# Altium integrated library Project_Parts.IntLib: 25 symbols
Pins are listed as number, name and electrical type; pins without a type are passive.

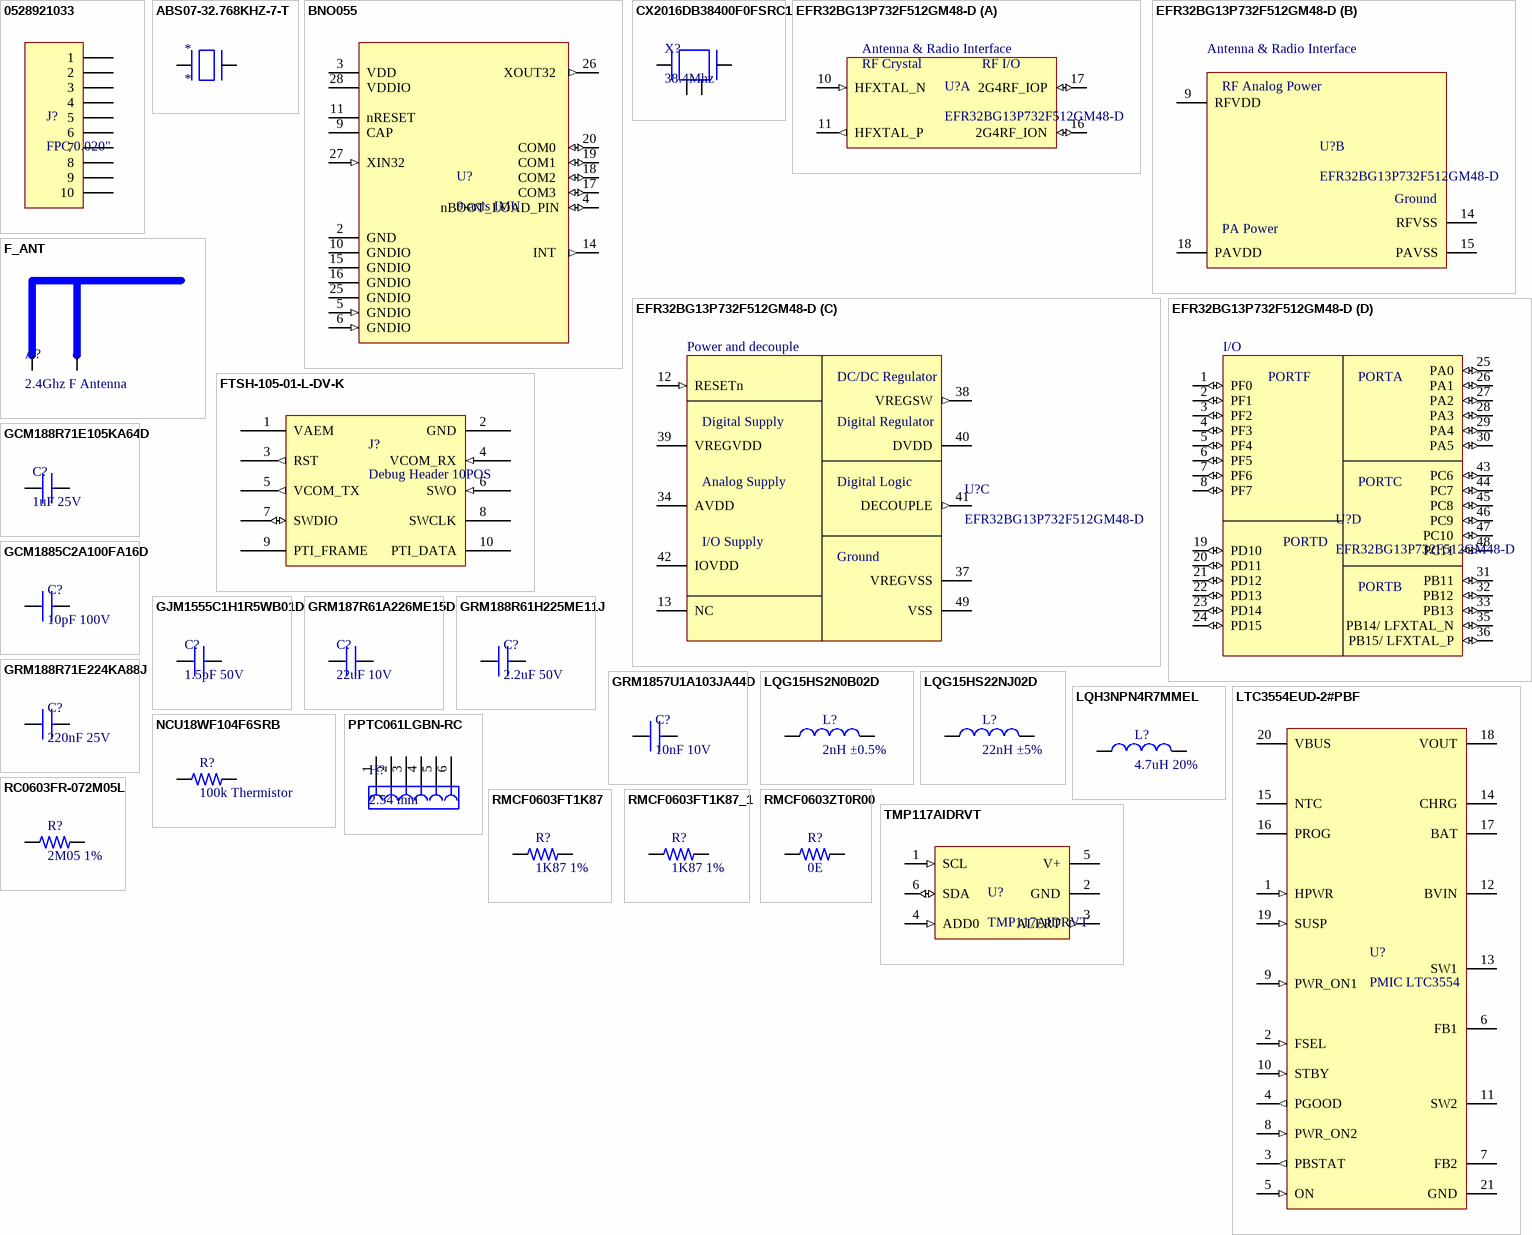
[diagram p0: symbols 0528921033 to TMP117AIDRVT]

## 0528921033
designator J?, comment FPC 0.020"
10 Position FFC, FPC Connector Contacts, Bottom 0.020 (0.50mm) Surface Mount, Right Angle; MF: Molex; MP: 0528921033; Value: *; Package: None; Purchase-URL: https://pricing.snapeda.com/search/part/0528921033/?ref=eda; Price: None; SnapEDA_Link: https://www.snapeda.com/parts/0528921033/Molex/view-part/662408/?ref=snap; Availability: Warning; Check_prices: https://www.snapeda.com/parts/0528921033/Molex/view-part/662408/?ref=eda
footprint MOLEX_0528921033
pins: 1, 2, 3, 4, 5, 6, 7, 8, 9, 10

## ABS07-32.768KHZ-7-T
designator *
Crystal 0.032768MHz ±20ppm (Tol) 7pF Flexural 70000Ohm 2-Pin CSMD T/R; Manufacturer: Abracon; Manufacturer Part Number: ABS07-32.768KHZ-7-T; Frequency: 32.768kHz; ESR (Equivalent Series Resistance): 70kR; Insulation Resistance: 500MR; Operating Frequency: 32.768 kHz; Supplier 1: Digi-Key; RoHS: Yes; Category: Crystals; Stock 1: 215993; Pricing 1: 1=1.36000, 10=1.30000, 50=1.27000, 100=1.08860, 500=1.05840, 1000=0.89208 (USD); Mount: Surface Mount; Case/Package: CSMD; Number of Pins: 2; Min Operating Temperature: -40°C; Max Operating Temperature: 85°C; Series: ABS07; Packaging: Tape and Reel; Frequency Tolerance: 20ppm; Load Capacitance: 7pF; Package Quantity: 3000; Tolerance: 20ppm; Frequency Stability: 20ppm; Termination: SMD/SMT; Series Resistance: 70kR; Length: 3.2mm; Width: 1.5mm; Height: 0.035inch; Depth: 1.5mm; Radiation Hardening: No; REACH SVHC: No SVHC; Lead Free: Lead Free; ComponentLink1URL: https://datasheet.ciiva.com/3174/abs07-3174144.pdf?src-supplier=Avnet; ComponentLink1Description: https://datasheet.ciiva.com/3174/abs07-3174144.pdf?src-supplier=Avnet; ComponentLink2URL: https://datasheet.ciiva.com/855/abs07-855945.pdf?src-supplier=Digi-Key; ComponentLink2Description: https://datasheet.ciiva.com/855/abs07-855945.pdf?src-supplier=Digi-Key; ComponentLink3URL: https://datasheet.ciiva.com/855/abs07-855946.pdf?src-supplier=Digi-Key; ComponentLink3Description: https://datasheet.ciiva.com/855/abs07-855946.pdf?src-supplier=Digi-Key; ComponentLink4URL: https://datasheet.ciiva.com/855/abs07-855947.pdf?src-supplier=Digi-Key; ComponentLink4Description: https://datasheet.ciiva.com/855/abs07-855947.pdf?src-supplier=Digi-Key; ComponentLink5URL: https://datasheet.ciiva.com/8344/abs07-8344589.pdf?src-supplier=Avnet; ComponentLink5Description: https://datasheet.ciiva.com/8344/abs07-8344589.pdf?src-supplier=Avnet; ComponentLink6URL: https://datasheet.ciiva.com/16199/abs07-16199467.pdf?src-supplier=Future+Electronics; ComponentLink6Description: https://datasheet.ciiva.com/16199/abs07-16199467.pdf?src-supplier=Future+Electronics
footprint XTAL_32.768kHz (DFN, 2-Leads, Body 1.50x3.20mm, Pitch 2.40mm, IPC Medium Density)
pins: 1, 2

## BNO055
designator U?, comment 9-axis IMU
BNO055 Series 1.7 to 3.6 V Intelligent 9-Axis Absolute Orientation Sensor-LGA-28; Manufacturer: Bosch; Sensor Type: Accelerometer,Gyroscope,Magnetometer,3 Axis; Output Type: I2C; Supplier 1: Future Electronics; Manufacturer Part Number: BNO055; RoHS: No; Category: Inertial Measurement Units (IMUs); Mount: Surface Mount; Case/Package: LGA; Min Operating Temperature: -40°C; Max Operating Temperature: 85°C; Packaging: Tape and Reel; Lead Free: Lead Free; ComponentLink1URL: https://ae-bst.resource.bosch.com/media/_tech/media/application_notes/BST-BNO055-HS000.pdf ?src-supplier=Digi-Key; ComponentLink1Description: https://ae-bst.resource.bosch.com/media/_tech/media/application_notes/BST-BNO055-HS000.pdf ?src-supplier=Digi-Key
footprint 28-LGA (LGA, 28-Leads, Body 5.20x3.80mmx1.18mm, Pitch 0.50mm)
pins: 2 GND  (power), 3 VDD  (power), 4 nBOOT_LOAD_PIN (io), 5 GNDIO (in), 6 GNDIO (in), 9 CAP  (power), 10 GNDIO (power), 11 nRESET  (power), 14 INT  (out), 15 GNDIO (power), 16 GNDIO (power), 17 COM3  (io), 18 COM2  (io), 19 COM1  (io), 20 COM0  (io), 25 GNDIO  (power), 26 XOUT32  (out), 27 XIN32  (in), 28 VDDIO  (power)

## CX2016DB38400F0FSRC1
designator X?, comment 38.4Mhz
Crystal 38.4MHz 4-Pin SMD T/R; Manufacturer: Kyocera AVX; Manufacturer Part Number: CX2016DB38400F0FSRC1; Supplier 1: Digi-Key; RoHS: No; Category: Crystals and Oscillators; Stock 1: 2086; Pricing 1: 1=1.05000, 10=0.92900, 50=0.86860, 100=0.76760, 500=0.72720, 1000=0.60600 (USD)
footprint XTAL_38.4Mhz (DFN, 4-Leads, Body 1.60x2.00mm, Pitch 1.23mm, IPC Medium Density)
pins: GND 2, GND(NC) 4, HOT1 1, HOT2 3

## EFR32BG13P732F512GM48-D
designator U?
Blue Gecko QFN48 2.4 G 19 dB BLE/Proprietary 512 kB 64 kB(RAM) 31GPIO; Manufacturer: Silicon Labs; Supplier 1: Digi-Key; Manufacturer Part Number: EFR32BG13P732F512GM48-D; RoHS: Yes; Category: RF Receivers, Transceivers; Pricing 1: 1=8.42000, 10=7.72000, 25=7.01800, 80=6.31625, 230=5.78987, 440=5.26350, 945=4.78499 (USD); ComponentLink1URL: http://www.farnell.com/datasheets/2813683.pdf?src-supplier=Farnell; ComponentLink1Description: http://www.farnell.com/datasheets/2813683.pdf?src-supplier=Farnell
footprint QFN-48_EFR32 (QFN, 48-Leads, Body 7.00x7.00mm, Pitch 0.50mm, Thermal Pad 5.30x5.30mm, IPC Medium Density)
part A pins: 10 HFXTAL_N (in) "High Frequency Crystal input pin.", 11 HFXTAL_P (out) "High Frequency Crystal output pin.", 16 2G4RF_ION (io) "2.4 GHz Differential RF input/output, negative path. This pin should be externally grounded.", 17 2G4RF_IOP (io) "2.4 GHz Differential RF input/output, positive path."
part B pins: 9 RFVDD (power) "Radio power supply", 14 RFVSS (power) "Radio Ground", 15 PAVSS (power) "Power Amplifier (PA) voltage regulator VSS", 18 PAVDD (power) ""Power Amplifier (PA) voltage regulator / VDD input""
part C pins: 12 RESETn (in) "Reset input, active low. This pin is internally pulled up to AVDD. To apply an external reset source to this pin, it is required to only drive this pin low during reset, and let the internal pull-up ensure that reset is released.", 13 NC "No Connect.", 34 AVDD (power) "Analog power supply.", 37 VREGVSS (power) "Voltage regulator VSS", 38 VREGSW (out) "DCDC regulator switching node", 39 VREGVDD (power) "Voltage regulator VDD input", 40 DVDD (power) "Digital power supply.", 41 DECOUPLE (out) "Decouple output for on-chip voltage regulator. An external decoupling capacitor is required at this pin. This pin should not be used to power any external circuits.", 42 IOVDD (power) "Digital IO power supply.", 49 VSS (power) "Ground"
part D pins: 1 PF0 (io) "GPIO (5V)", 2 PF1 (io) "GPIO(5V)", 3 PF2 (io) "GPIO (5V)", 4 PF3 (io) "GPIO(5V)", 5 PF4 (io) "GPIO (5V)", 6 PF5 (io) "GPIO(5V)", 7 PF6 (io) "GPIO (5V)", 8 PF7 (io) "GPIO(5V)", 19 PD10 (io) "GPIO (5V)", 20 PD11 (io) "GPIO (5V)", 21 PD12 (io) "GPIO (5V)", 22 PD13 (io) "GPIO", 23 PD14 (io) "GPIO", 24 PD15 (io) "GPIO", 25 PA0 (io) "GPIO", 26 PA1 (io) "GPIO", 27 PA2 (io) "GPIO", 28 PA3 (io) "GPIO", 29 PA4 (io) "GPIO", 30 PA5 (io) "GPIO (5V)", 31 PB11 (io) "GPIO", 32 PB12 (io) "GPIO", 33 PB13 (io) "GPIO", 35 PB14/ LFXTAL_N (io) "GPIO", 36 PB15/ LFXTAL_P (io) "GPIO", 43 PC6 (io) "GPIO (5V)", 44 PC7 (io) "GPIO (5V)", 45 PC8 (io) "GPIO (5V)", 46 PC9 (io) "GPIO (5V)", 47 PC10 (io) "GPIO (5V)", 48 PC11 (io) "GPIO (5V)"
part A text: Antenna & Radio Interface; RF Crystal; RF I/O
part B text: Antenna & Radio Interface; RF Analog Power; Ground; PA Power
part C text: Power and decouple; DC/DC Regulator; Digital Supply; Digital Regulator; Analog Supply; Digital Logic; I/O Supply; Ground
part D text: I/O; PORTF; PORTA; PORTC; PORTD; PORTB

## F_ANT
designator A?, comment 2.4Ghz F Antenna
footprint F_ANT_FOOTPRINT
pins: FEED "Feed into 2.4Ghz F-Antenna", GND "Ground"

## FTSH-105-01-L-DV-K
designator J?, comment Debug Header 10POS
Conn Unshrouded Header HDR 10 POS 1.27mm Solder ST Top Entry SMD Tube; Manufacturer: Samtec; Manufacturer Part Number: FTSH-105-01-L-DV-K; Number of Contacts: 10; Gender: Male; Max Current Rating: 1.75A; Connector Type: Male Pin; Row Spacing: 0.05inch; Supplier 1: Digi-Key; RoHS: Yes; Category: Headers and Wire Housings; Stock 1: 7477; Pricing 1: 1=4.28000, 10=3.88500, 92=3.42304, 460=2.90954, 1012=2.48168 (USD); Mount: Surface Mount; Contact Plating: Gold; Contact Material: Bronze; Housing Color: Black; Housing Material: Polymer; Color: Black; Min Operating Temperature: -55°C; Max Operating Temperature: 125°C; Number of Rows: 2; Termination: Solder; Packaging: Rail/Tube; Orientation: Straight; Package Quantity: 1; Number of Positions: 10; Series: FTSH; Contact Type: Male Pin; Length: 6.35mm; Pitch: 1.27mm; Depth: 3.43mm; Contact Mating Length: 0.12inch; Radiation Hardening: No; Lead Free: Lead Free; RoHS Compliant: Yes; REACH SVHC: No SVHC; ComponentLink1URL: https://datasheet.ciiva.com/26936/getdatasheetpartid-175877-26936879.pdf?src-supplier=Verical; ComponentLink1Description: https://datasheet.ciiva.com/26936/getdatasheetpartid-175877-26936879.pdf?src-supplier=Verical; ComponentLink2URL: https://datasheet.ciiva.com/22703/ftsh-smt-22703900.pdf?src-supplier=Element14; ComponentLink2Description: https://datasheet.ciiva.com/22703/ftsh-smt-22703900.pdf?src-supplier=Element14; ComponentLink3URL: https://datasheet.ciiva.com/10245/ftsh-mt-10245272.pdf?src-supplier=Avnet; ComponentLink3Description: https://datasheet.ciiva.com/10245/ftsh-mt-10245272.pdf?src-supplier=Avnet; ComponentLink4URL: https://datasheet.ciiva.com/16657/ftsh-mt-16657372.pdf?src-supplier=Avnet+Europe; ComponentLink4Description: https://datasheet.ciiva.com/16657/ftsh-mt-16657372.pdf?src-supplier=Avnet+Europe; ComponentLink5URL: https://datasheet.ciiva.com/728/ftsh-1xx-xx-xxx-dv-xxx-mkt-728872.pdf?src-supplier=Digi-Key; ComponentLink5Description: https://datasheet.ciiva.com/728/ftsh-1xx-xx-xxx-dv-xxx-mkt-728872.pdf?src-supplier=Digi-Key
footprint FTSH-105-01-XXX-DV-K
pins: 1 VAEM (power) "Target Advanced Energy Monitor Voltage Net", 2 GND (power) "Target Ground", 3 RST (out) "Target Reset (Active Low)", 4 VCOM_RX (in) "Target Pass-through UART/Virtual COM Port Receive", 5 VCOM_TX (out) "Target Pass-through UART/Virtual COM Port Transmit", 6 SWO (in) "Target Serial Wire Output", 7 SWDIO (io) "Target Serial Wire Data Input/Output", 8 SWCLK "Target Serial Wire Clock", 9 PTI_FRAME "Target Packet Trace Interface Frame Signal", 10 PTI_DATA "Target Packet Trace Interface Data Signal"

## GCM188R71E105KA64D
designator C?, comment 1uF 25V
CAP CER 1UF 25V X7R 0603; Manufacturer: Murata; Manufacturer Part Number: GCM188R71E105KA64D; Tolerance: 10%; Supplier 1: Digi-Key; RoHS: Yes; Category: Ceramic Capacitors; Stock 1: 466; Pricing 1: 1=0.26000, 10=0.17800, 50=0.10700, 100=0.09030, 500=0.06178, 1000=0.05465 (USD); Mount: Surface Mount; Case/Package: 0603; Case Code (Metric): 1608; Case Code (Imperial): 0603; Weight: 0.000222oz; Min Operating Temperature: -55°C; Max Operating Temperature: 125°C; Capacitance: 1uF; Packaging: Tape and Reel; Dielectric: X7R; Voltage Rating: 25V; Voltage: 25V; Termination: SMD/SMT; Voltage Rating (DC): 25V; Package Quantity: 4000; Series: GCM; Construction: Flat; Length: 1.6mm; Width: 0.031inch; Height: 0.8mm; Thickness: 0.035inch; Depth: 0.8mm; Ratings: AEC-Q200; Radiation Hardening: No; REACH SVHC: No SVHC; Lead Free: Lead Free; RoHS Compliant: Yes; ComponentLink1URL: https://datasheet.ciiva.com/11786/0900766b80ef92d0-11786738.pdf?src-supplier=RSComponents; ComponentLink1Description: https://datasheet.ciiva.com/11786/0900766b80ef92d0-11786738.pdf?src-supplier=RSComponents; ComponentLink2URL: https://datasheet.ciiva.com/11616/product-11616499.pdf?src-supplier=Avnet; ComponentLink2Description: https://datasheet.ciiva.com/11616/product-11616499.pdf?src-supplier=Avnet; ComponentLink3URL: https://datasheet.ciiva.com/26843/getdatasheetpartid-562446-26843671.pdf?src-supplier=Verical; ComponentLink3Description: https://datasheet.ciiva.com/26843/getdatasheetpartid-562446-26843671.pdf?src-supplier=Verical; ComponentLink4URL: https://datasheet.ciiva.com/16624/product-16624556.pdf?src-supplier=Avnet+Europe; ComponentLink4Description: https://datasheet.ciiva.com/16624/product-16624556.pdf?src-supplier=Avnet+Europe
footprint CAP_0603_1MM (Chip Capacitor, 2-Leads, Body 1.60x0.80mm, IPC Medium Density)
pins: 1, 2

## GCM1885C2A100FA16D
designator C?, comment 10pF 100V
Cap Ceramic 10pF 100V C0G 1% Pad SMD 0603 125C Automotive T/R; Manufacturer: Murata; Manufacturer Part Number: GCM1885C2A100FA16D; Supplier 1: Digi-Key; RoHS: Yes; Category: Ceramic Capacitors; Stock 1: 30452; Pricing 1: 1=0.20000, 10=0.14300, 50=0.08140, 100=0.06750, 500=0.04730, 1000=0.03916 (USD); RoHS Compliant: Yes
footprint CAP_0603_1MM (Chip Capacitor, 2-Leads, Body 1.60x0.80mm, IPC Medium Density)
pins: 1, 2

## GJM1555C1H1R5WB01D
designator C?, comment 1.5pF 50V
Cap Ceramic 1.5pF 50V C0G 0.05pF SMD 0402 125C T/R; Manufacturer: Murata; Manufacturer Part Number: GJM1555C1H1R5WB01D; Supplier 1: Digi-Key; RoHS: Yes; Category: Ceramic Capacitors; Stock 1: 78387; Pricing 1: 1=0.26000, 10=0.17800, 50=0.11880, 100=0.10100, 500=0.07128, 1000=0.06237, 2500=0.05940, 5000=0.05494 (USD); Mount: Surface Mount; Case/Package: 0402; Case Code (Imperial): 0402; Case Code (Metric): 1005; Min Operating Temperature: -55°C; Max Operating Temperature: 125°C; Packaging: Tape and Reel; Capacitance: 1.5pF; Voltage Rating: 50V; Voltage Rating (DC): 50V; Package Quantity: 10000; Dielectric: C0G; Termination: SMD/SMT; Series: GJM; Construction: Flat; Length: 1mm; Width: 0.02inch; Height: 0.5mm; Thickness: 0.022inch; Depth: 0.5mm; Radiation Hardening: No; Lead Free: Lead Free; RoHS Compliant: Yes; ComponentLink1URL: https://datasheet.ciiva.com/18183/getdatasheetpartid-312921-18183825.pdf?src-supplier=Verical; ComponentLink1Description: https://datasheet.ciiva.com/18183/getdatasheetpartid-312921-18183825.pdf?src-supplier=Verical
footprint CAP_0402 (0402 Capacitor)
pins: 1, 2

## GRM187R61A226ME15D
designator C?, comment 22uF 10V
0603 22 uF 10 V ±20% Tolerance X5R Multilayer Ceramic Capacitor; Manufacturer: Murata; Manufacturer Part Number: GRM187R61A226ME15D; Supplier 1: Digi-Key; RoHS: Yes; Category: Ceramic Capacitors; Stock 1: 914414; Pricing 1: 1=0.52000, 10=0.36500, 50=0.27580, 100=0.24030, 500=0.17798, 1000=0.15128 (USD); Mount: Surface Mount; Case/Package: 0603; Case Code (Metric): 1608; Case Code (Imperial): 0603; Min Operating Temperature: -55°C; Max Operating Temperature: 85°C; Packaging: Tape and Reel; Capacitance: 22uF; Voltage Rating: 10V; Tolerance: 20%; Voltage Rating (DC): 10V; Dielectric: X5R; Length: 0.063inch; Width: 0.031inch; Thickness: 0.031inch; RoHS Compliant: Yes; ComponentLink1URL: http://search.murata.co.jp/Ceramy/image/img/A01X/G101/ENG/GRM187R61A226ME15-01.pdf?src-supplier=Digi-Key; ComponentLink1Description: http://search.murata.co.jp/Ceramy/image/img/A01X/G101/ENG/GRM187R61A226ME15-01.pdf?src-supplier=Digi-Key
footprint CAP_0603_1MM (Chip Capacitor, 2-Leads, Body 1.60x0.80mm, IPC Medium Density)
pins: 1, 2

## GRM188R61H225ME11J
designator C?, comment 2.2uF 50V
Cap Ceramic 2.2uF 50VDC X5R 20% 0603 Paper T/R; Manufacturer: Murata; Manufacturer Part Number: GRM188R61H225ME11J; Supplier 1: Digi-Key; RoHS: Yes; Category: Ceramic Capacitors; Stock 1: 160; Pricing 1: 1=0.35000, 10=0.23800, 50=0.15840, 100=0.13460, 500=0.09504, 1000=0.08316, 2500=0.07920, 5000=0.07326 (USD); RoHS Compliant: Yes
footprint CAP_0603_1MM (Chip Capacitor, 2-Leads, Body 1.60x0.80mm, IPC Medium Density)
pins: 1, 2

## GRM188R71E224KA88J
designator C?, comment 220nF 25V
Cap Ceramic 0.22uF 25V X7R 10% SMD 0603 125°C Paper T/R; Manufacturer: Murata; Manufacturer Part Number: GRM188R71E224KA88J; Supplier 1: Digi-Key; RoHS: Yes; Category: Ceramic Capacitors; Stock 1: 6629; Pricing 1: 1=0.20000, 10=0.14100, 50=0.08020, 100=0.06650, 500=0.04664, 1000=0.03861, 2500=0.03593, 5000=0.03287 (USD); Mount: Surface Mount; Case/Package: 0603; Case Code (Imperial): 0603; Case Code (Metric): 1608; Min Operating Temperature: -55°C; Max Operating Temperature: 125°C; Tolerance: 10%; Packaging: Tape and Reel; Capacitance: 220nF; Voltage Rating: 25V; Voltage Rating (DC): 25V; Package Quantity: 10000; Dielectric: X7R; Termination: SMD/SMT; Series: GRM; Construction: Flat; Length: 1.6mm; Width: 0.031inch; Height: 0.8mm; Thickness: 0.035inch; Depth: 0.8mm; Radiation Hardening: No; RoHS Compliant: Yes; ComponentLink1URL: https://datasheet.ciiva.com/167/grm188r71e224ka88-01-167083.pdf?src-supplier=Digi-Key; ComponentLink1Description: https://datasheet.ciiva.com/167/grm188r71e224ka88-01-167083.pdf?src-supplier=Digi-Key; ComponentLink2URL: https://datasheet.ciiva.com/11619/product-11619207.pdf?src-supplier=Avnet; ComponentLink2Description: https://datasheet.ciiva.com/11619/product-11619207.pdf?src-supplier=Avnet; ComponentLink3URL: https://datasheet.ciiva.com/17455/product-17455436.pdf?src-supplier=Avnet+Europe; ComponentLink3Description: https://datasheet.ciiva.com/17455/product-17455436.pdf?src-supplier=Avnet+Europe
footprint CAP_0603_1MM (Chip Capacitor, 2-Leads, Body 1.60x0.80mm, IPC Medium Density)
pins: 1, 2

## GRM1857U1A103JA44D
designator C?, comment 10nF 10V
0603 10000 pF 10 V ±5% Tolerance U2J Multilayer Ceramic Capacitor; Manufacturer: Murata; Manufacturer Part Number: GRM1857U1A103JA44D; Supplier 1: Digi-Key; RoHS: Yes; Category: Ceramic Capacitors; Stock 1: 984; Pricing 1: 1=0.22000, 10=0.14800, 50=0.08860, 100=0.07480, 500=0.05120, 1000=0.04529 (USD); Mount: Surface Mount; Case/Package: 0603; Case Code (Metric): 1608; Case Code (Imperial): 0603; Min Operating Temperature: -55°C; Max Operating Temperature: 125°C; Capacitance: 10nF; Tolerance: 5%; Package Quantity: 1; Packaging: Tape and Reel; Voltage Rating: 10V; Voltage Rating (DC): 10V; Dielectric: U2J; Termination: SMD/SMT; Series: GRM; Construction: Flat; Length: 1.6mm; Width: 0.031inch; Height: 0.5mm; Thickness: 0.02inch; Depth: 0.8mm; Radiation Hardening: No; RoHS Compliant: Yes; ComponentLink1URL: https://datasheet.ciiva.com/168/product-168294.pdf?src-supplier=Digi-Key; ComponentLink1Description: https://datasheet.ciiva.com/168/product-168294.pdf?src-supplier=Digi-Key; ComponentLink2URL: https://datasheet.ciiva.com/29540/partnumbering-e-01-29540431.pdf?src-supplier=Digi-Key; ComponentLink2Description: https://datasheet.ciiva.com/29540/partnumbering-e-01-29540431.pdf?src-supplier=Digi-Key
footprint CAP_0603_1MM (Chip Capacitor, 2-Leads, Body 1.60x0.80mm, IPC Medium Density)
pins: 1, 2

## LQG15HS2N0B02D
designator L?, comment 2nH ±0.5%
Inductor RF Chip Unshielded Multi-Layer 0.002uH 0.1nH 100MHz 8Q-Factor Air 0.9A 0.09Ohm DCR 0402 T/R; Manufacturer: Murata; Manufacturer Part Number: LQG15HS2N0B02D; Supplier 1: Digi-Key; RoHS: Yes; Category: Fixed Inductors; Stock 1: 42726; Pricing 1: 1=0.10000, 10=0.08000, 25=0.07120, 50=0.06060, 100=0.05360, 250=0.04908, 500=0.04462, 1000=0.03748, 2500=0.03213 (USD); RoHS Compliant: Yes
footprint IND_0402
pins: 1, 2

## LQG15HS22NJ02D
designator L?, comment 22nH ±5%
Inductor 22nH 350mA ±5% 0402; Manufacturer: Murata; Manufacturer Part Number: LQG15HS22NJ02D; Core Material: Air; Q Factor: 8; Current Rating: 300mA; Shielding: Unshielded; Self Resonant Frequency: 1.9GHz; DC Resistance (DCR): 420mR; Test Frequency: 100MHz; Supplier 1: Digi-Key; RoHS: Yes; Category: Fixed Inductors; Stock 1: 680; Pricing 1: 1=0.10000, 10=0.05500, 25=0.04920, 50=0.04180, 100=0.03690, 250=0.03380, 500=0.03072, 1000=0.02580, 2500=0.02211 (USD); Mount: Surface Mount; Case/Package: 0402; Case Code (Metric): 1005; Case Code (Imperial): 0402; Min Operating Temperature: -55°C; Max Operating Temperature: 125°C; Package Quantity: 10000; Packaging: Tape and Reel; Tolerance: 5%; Inductance: 22nH; Max DC Current: 300mA; Termination: SMD/SMT; DC Current: 300mA; Series: LQG15HS; Rated Current-Max: 300mA; Length: 1mm; Width: 0.02inch; Height: 0.5mm; Height - Seated (Max): 0.022inch; Depth: 0.55mm; Radiation Hardening: No; Military Standard: Not; Lead Free: Lead Free; RoHS Compliant: Yes; ComponentLink1URL: https://datasheet.ciiva.com/11801/0900766b80f10809-11801427.pdf?src-supplier=RSComponents; ComponentLink1Description: https://datasheet.ciiva.com/11801/0900766b80f10809-11801427.pdf?src-supplier=RSComponents; ComponentLink2URL: https://datasheet.ciiva.com/1038/l0075s0083lqg15hs-1038107.pdf?src-supplier=Digi-Key; ComponentLink2Description: https://datasheet.ciiva.com/1038/l0075s0083lqg15hs-1038107.pdf?src-supplier=Digi-Key; ComponentLink3URL: https://datasheet.ciiva.com/1038/l0075s0083lqg15hs-1038106.pdf?src-supplier=Digi-Key; ComponentLink3Description: https://datasheet.ciiva.com/1038/l0075s0083lqg15hs-1038106.pdf?src-supplier=Digi-Key; ComponentLink4URL: https://datasheet.ciiva.com/1038/l0075s0083lqg15hs-1038108.pdf?src-supplier=Digi-Key; ComponentLink4Description: https://datasheet.ciiva.com/1038/l0075s0083lqg15hs-1038108.pdf?src-supplier=Digi-Key; ComponentLink5URL: https://datasheet.ciiva.com/3082/l0075s0083lqg15hs-3082178.pdf?src-supplier=Avnet; ComponentLink5Description: https://datasheet.ciiva.com/3082/l0075s0083lqg15hs-3082178.pdf?src-supplier=Avnet; ComponentLink6URL: https://datasheet.ciiva.com/16444/l0075s0083lqg15hs-16444393.pdf?src-supplier=Future+Electronics; ComponentLink6Description: https://datasheet.ciiva.com/16444/l0075s0083lqg15hs-16444393.pdf?src-supplier=Future+Electronics; ComponentLink7URL: https://datasheet.ciiva.com/18088/getdatasheetpartid-55811-18088843.pdf?src-supplier=Verical; ComponentLink7Description: https://datasheet.ciiva.com/18088/getdatasheetpartid-55811-18088843.pdf?src-supplier=Verical; ComponentLink8URL: https://datasheet.ciiva.com/17279/l0075s0083lqg15hs-17279242.pdf?src-supplier=Avnet+Europe; ComponentLink8Description: https://datasheet.ciiva.com/17279/l0075s0083lqg15hs-17279242.pdf?src-supplier=Avnet+Europe
footprint IND_0402
pins: 1, 2

## LQH3NPN4R7MMEL
designator L?, comment 4.7uH 20%
Ind Power Chip Shielded Wirewound 4.7uH 20% 1MHz Ferrite 1.7A 1212 Emboss T/R; Manufacturer: Murata; Manufacturer Part Number: LQH3NPN4R7MMEL; Current Rating: 1A; Saturation Current: 1.3A; DC Resistance (DCR): 120mR; Self Resonant Frequency: 40MHz; Supplier 1: Digi-Key; RoHS: Yes; Category: Fixed Inductors; Stock 1: 3653; Pricing 1: 1=0.36000, 10=0.32000, 25=0.28040, 50=0.24020, 100=0.22020, 250=0.20020, 500=0.18818, 1000=0.14414 (USD); Mount: Surface Mount; Case/Package: 1212; Core Material: Ferrite; Case Code (Imperial): 1212; Case Code (Metric): 3030; Min Operating Temperature: -40°C; Max Operating Temperature: 105°C; Resistor Type: Wirewound; Packaging: Cut Tape; Inductance: 4.7uH; Tolerance: 20%; Shielding: Shielded; Test Frequency: 1MHz; RoHS Compliant: Yes; ComponentLink1URL: http://search.murata.co.jp/Ceramy/image/img/P02/JELF243A-0153.pdf?src-supplier=Digi-Key; ComponentLink1Description: http://search.murata.co.jp/Ceramy/image/img/P02/JELF243A-0153.pdf?src-supplier=Digi-Key
footprint INDC3030X15N (Chip Inductor, 2-Leads, Body 3.00x3.00mm, IPC Medium Density)
pins: 1, 2

## LTC3554EUD-2#PBF
designator U?, comment PMIC LTC3554
Switching Battery Charger Li-Ion/Li-Pol 400mA 4.2V 20-Pin QFN EP Tube; Manufacturer: Analog Devices / Linear Technology; Manufacturer Part Number: LTC3554EUD-2#PBF; Number of Outputs: 2; Max Input Voltage: 5.5V; Min Input Voltage: 4.35V; Operating Supply Current: 10uA; Number of Cells: 1; Supplier 1: Digi-Key; RoHS: Yes; Category: Battery Management; Stock 1: 121; Pricing 1: 1=6.36000, 10=5.74300, 25=5.47600, 100=4.75470, 250=4.54104, 500=4.15800 (USD); Case/Package: QFN; Number of Pins: 20; Min Operating Temperature: -40°C; Max Operating Temperature: 85°C; Package Quantity: 121; Packaging: Rail/Tube; Series: PowerPath™; RoHS Compliant: Yes; ComponentLink1URL: https://datasheet.ciiva.com/1964/27687-1964824.pdf?src-supplier=Digi-Key; ComponentLink1Description: https://datasheet.ciiva.com/1964/27687-1964824.pdf?src-supplier=Digi-Key
footprint LTC3554QFN-PMIC (QFN, 20-Leads, Body 3.50x3.50mm, Pitch 0.40mm, Thermal Pad 1.65x1.65mm, IPC Medium Density)
pins: 1 HPWR (in) "High Power Logic Input.", 2 FSEL (in) "Buck Frequency Select", 3 PBSTAT (out) "Pushbutton Status.", 4 PGOOD (out) "Power Good.", 5 ON (in) "Pushbutton Input.", 6 FB1 (power) "Feedback Input for Step-Down Switching Regulator 1.", 7 FB2 (power) "Feedback Input for Step-Down Switching Regulator 2.", 8 PWR_ON2 (in) "Logic Input Enables Step-Down Switching Regulator 2", 9 PWR_ON1 (in) "Logic Input Enables Step-Down Switching Regulator 1", 10 STBY (in) "Standby Mode.", 11 SW2 (power) "Power Transmission (Switch) Pin for Step-Down Switching Regulator 2.", 12 BVIN (power) "Power Input for Step-Down Switching Regulators 1 and 2.", 13 SW1 (power) "Power Transmission (Switch) Pin for Step-Down Switching Regulator 1.", 14 CHRG (power) "Open-Drain Charge Status Output.", 15 NTC (power) "The NTC pin connects to a battery’s thermistor to determine if the battery is too hot or too cold to charge.", 16 PROG (power) "Charge Current Program and Charge Current Monitor Pin.", 17 BAT (power) "Single-Cell Li-Ion Battery Pin.", 18 VOUT (power) "Output Voltage of the PowerPath Controller and Input Voltage of the Battery Charger.", 19 SUSP (in) "Suspend Mode Logic Input.", 20 VBUS (power) "USB Input Voltage.", 21 GND (power) "Gnd exposed pad"

## NCU18WF104F6SRB
designator R?, comment 100k Thermistor
Ntc Thermistor, 100K, 0603, Automotive; Manufacturer: Murata; Manufacturer Part Number: NCU18WF104F6SRB; Supplier 1: Digi-Key; RoHS: Yes; Category: Thermistors; Stock 1: 152; Pricing 1: 1=0.37000, 5=0.33000, 10=0.29300, 25=0.26240, 50=0.23040, 100=0.19650, 500=0.16248, 1000=0.13603 (USD); Case Code (Metric): 1608; Case Code (Imperial): 0603; Min Operating Temperature: -40°C; Max Operating Temperature: 150°C; REACH SVHC: No SVHC; RoHS Compliant: Yes; ComponentLink1URL: http://www.farnell.com/datasheets/2095756.pdf?src-supplier=Farnell; ComponentLink1Description: http://www.farnell.com/datasheets/2095756.pdf?src-supplier=Farnell; ComponentLink2URL: https://www.murata.com/~/media/webrenewal/support/library/catalog/products/thermistor/r03e.ashx?la=en-us&src-supplier=Digi-Key; ComponentLink2Description: https://www.murata.com/~/media/webrenewal/support/library/catalog/products/thermistor/r03e.ashx?la=en-us&src-supplier=Digi-Key; ComponentLink3URL: http://www.farnell.com/datasheets/2095756.pdf?src-supplier=Element14; ComponentLink3Description: http://www.farnell.com/datasheets/2095756.pdf?src-supplier=Element14; ComponentLink4URL: http://www.farnell.com/datasheets/2095756.pdf?src-supplier=Newark; ComponentLink4Description: http://www.farnell.com/datasheets/2095756.pdf?src-supplier=Newark
footprint RES_0603_1608X06 (Chip Resistor, 2-Leads, Body 1.60x0.80mm, IPC Medium Density)
pins: 1, 2

## PPTC061LGBN-RC
designator H?, comment 2.54 mm
Header Female 2.54 mm 1 Row Right Angle; Manufacturer: Sullins; Manufacturer Part Number: PPTC061LGBN-RC; Number of Positions: 6; Pitch: 0.1inch; Supplier 1: Digi-Key; RoHS: Yes; Category: Connectors; Stock 1: 12070; Pricing 1: 1=0.71000, 10=0.61800, 80=0.50925, 440=0.44280, 1000=0.36531, 5000=0.32103, 10000=0.31980 (USD); Mount: Through Hole; Color: Black; Contact Plating: Tin; Contact Material: Bronze; Housing Color: Black; Housing Material: Plastic; Package Quantity: 1000; Number of Rows: 1; Packaging: Bulk; Termination: Solder; Connector Type: Header; Contact Type: Female Socket; Length: 15.7mm; Width: 8.5mm; Height: 2.4mm; Lead Free: Lead Free; RoHS Compliant: Yes; ComponentLink1URL: https://media.digikey.com/pdf/Data%20Sheets/Sullins%20PDFs/Female_Headers.100_DS.pdf?src-supplier=Digi-Key; ComponentLink1Description: https://media.digikey.com/pdf/Data%20Sheets/Sullins%20PDFs/Female_Headers.100_DS.pdf?src-supplier=Digi-Key; Supplier Part Number 1: S5442-ND
footprint 6-PIN_FEMALE_90_HEADER (.025 SQ Post Terminal Strip Assembly, 1x6 Pins, Vertical, 2.54mm Pitch, Female)
pins: 1, 2, 3, 4, 5, 6

## RC0603FR-072M05L
designator R?, comment 2M05 1%
Res Thick Film 0603 2.05M Ohm 1% 1/10W ±100ppm/°C Molded SMD SMD Paper T/R; Manufacturer: Yageo; Manufacturer Part Number: RC0603FR-072M05L; Resistance: 2.05MR; Max Power Dissipation: 100mW; Supplier 1: Digi-Key; RoHS: Yes; Category: Chip SMD Resistors; Stock 1: 2145; Pricing 1: 1=0.10000, 10=0.02400, 100=0.00970, 1000=0.00436, 2500=0.00378 (USD); Case/Package: 0603; Contact Plating: Tin,Matte; Min Operating Temperature: -55°C; Max Operating Temperature: 155°C; Tolerance: 1%; Resistor Type: Thick Film; Packaging: Tape and Reel; Number of Terminations: 2; Temperature Coefficient: 100ppm/°C; Features: Moisture Resistant; Series: RC; Length: 0.063inch; Width: 0.031inch; Height: 0.022inch; Radiation Hardening: No; RoHS Compliant: Yes; ComponentLink1URL: http://www.yageo.com/documents/recent/PYu-RC_Group_51_RoHS_L_2.pdf?src-supplier=Avnet; ComponentLink1Description: http://www.yageo.com/documents/recent/PYu-RC_Group_51_RoHS_L_2.pdf?src-supplier=Avnet; ComponentLink2URL: http://www.yageo.com.tw/exep/pages/download/literatures/PYu-R_INT-thick_7.pdf?src-supplier=Digi-Key; ComponentLink2Description: http://www.yageo.com.tw/exep/pages/download/literatures/PYu-R_INT-thick_7.pdf?src-supplier=Digi-Key; ComponentLink3URL: http://www.yageo.com/documents/recent/PYu-RC0603_51_RoHS_L_5.pdf?src-supplier=Avnet+Europe; ComponentLink3Description: http://www.yageo.com/documents/recent/PYu-RC0603_51_RoHS_L_5.pdf?src-supplier=Avnet+Europe
footprint RES_0603_1608X06 (Chip Resistor, 2-Leads, Body 1.60x0.80mm, IPC Medium Density)
pins: 1, 2

## RMCF0603FT1K87
designator R?, comment 1K87 1%
Res Thick Film 0603 1.87K Ohm 1% 1/10W ±100ppm/°C Molded SMD SMD Paper T/R; Manufacturer: Stackpole Electronics; Manufacturer Part Number: RMCF0603FT1K87; Resistance: 1.87kR; Max Power Dissipation: 100mW; Supplier 1: Digi-Key; RoHS: Yes; Category: Chip SMD Resistors; Stock 1: 17; Pricing 1: 1=0.10000, 10=0.01700, 100=0.00680, 1000=0.00305, 2500=0.00264 (USD); Mount: Surface Mount; Case/Package: 0603; Case Code (Metric): 1608; Case Code (Imperial): 0603; Contact Plating: Tin,Matte; Min Operating Temperature: -55°C; Max Operating Temperature: 155°C; Tolerance: 1%; Packaging: Tape and Reel; Resistor Type: Thick Film; Number of Terminations: 2; Temperature Coefficient: 100ppm/°C; Features: Automotive AEC-Q200; Series: RMCF; Length: 0.061inch; Width: 0.031inch; Height: 0.022inch; Radiation Hardening: No; Lead Free: Lead Free; RoHS Compliant: Yes; ComponentLink1URL: https://www.seielect.com/catalog/SEI-RMCF_RMCP.pdf?src-supplier=Avnet; ComponentLink1Description: https://www.seielect.com/catalog/SEI-RMCF_RMCP.pdf?src-supplier=Avnet; ComponentLink2URL: https://www.seielect.com/catalog/SEI-Packaging.pdf?src-supplier=Digi-Key; ComponentLink2Description: https://www.seielect.com/catalog/SEI-Packaging.pdf?src-supplier=Digi-Key; ComponentLink3URL: https://www.seielect.com/Catalog/SEI-RMCF_RMCP.pdf?src-supplier=Digi-Key; ComponentLink3Description: https://www.seielect.com/Catalog/SEI-RMCF_RMCP.pdf?src-supplier=Digi-Key
footprint RES_0603_1608X06 (Chip Resistor, 2-Leads, Body 1.60x0.80mm, IPC Medium Density)
pins: 1, 2

## RMCF0603FT1K87_1
designator R?, comment 1K87 1%
Res Thick Film 0603 1.87K Ohm 1% 1/10W ±100ppm/°C Molded SMD SMD Paper T/R; Manufacturer: Stackpole Electronics; Manufacturer Part Number: RMCF0603FT1K87; Resistance: 1.87kR; Max Power Dissipation: 100mW; Supplier 1: Digi-Key; RoHS: Yes; Category: Chip SMD Resistors; Stock 1: 17; Pricing 1: 1=0.10000, 10=0.01700, 100=0.00680, 1000=0.00305, 2500=0.00264 (USD); Mount: Surface Mount; Case/Package: 0603; Case Code (Metric): 1608; Case Code (Imperial): 0603; Contact Plating: Tin,Matte; Min Operating Temperature: -55°C; Max Operating Temperature: 155°C; Tolerance: 1%; Packaging: Tape and Reel; Resistor Type: Thick Film; Number of Terminations: 2; Temperature Coefficient: 100ppm/°C; Features: Automotive AEC-Q200; Series: RMCF; Length: 0.061inch; Width: 0.031inch; Height: 0.022inch; Radiation Hardening: No; Lead Free: Lead Free; RoHS Compliant: Yes; ComponentLink1URL: https://www.seielect.com/catalog/SEI-RMCF_RMCP.pdf?src-supplier=Avnet; ComponentLink1Description: https://www.seielect.com/catalog/SEI-RMCF_RMCP.pdf?src-supplier=Avnet; ComponentLink2URL: https://www.seielect.com/catalog/SEI-Packaging.pdf?src-supplier=Digi-Key; ComponentLink2Description: https://www.seielect.com/catalog/SEI-Packaging.pdf?src-supplier=Digi-Key; ComponentLink3URL: https://www.seielect.com/Catalog/SEI-RMCF_RMCP.pdf?src-supplier=Digi-Key; ComponentLink3Description: https://www.seielect.com/Catalog/SEI-RMCF_RMCP.pdf?src-supplier=Digi-Key
footprint RES_0603_1608X06 (Chip Resistor, 2-Leads, Body 1.60x0.80mm, IPC Medium Density)
pins: 1, 2

## RMCF0603ZT0R00
designator R?, comment 0E
Res Thkflm 0603 0 Ohm Jumper 1/10W 100Ppm/ C Smd Rohs Compliant: Yes; Manufacturer: Stackpole Electronics; Manufacturer Part Number: RMCF0603ZT0R00; Resistance: 0R; Power Rating: 100mW; Current Rating: 1A; Working Voltage: 75V; Supplier 1: Digi-Key; RoHS: Yes; Category: Chip SMD Resistors; Stock 1: 5165087; Pricing 1: 1=0.10000, 10=0.01300, 25=0.00960, 50=0.00720, 100=0.00530, 250=0.00404, 500=0.00324, 1000=0.00238 (USD); Mount: Surface Mount; Case/Package: 0603; Case Code (Metric): 1608; Case Code (Imperial): 0603; Contact Plating: Tin,Matte; Min Operating Temperature: -55°C; Max Operating Temperature: 155°C; Packaging: Tape and Reel; Series: RMCF; Resistor Type: Thick Film; Number of Terminations: 2; Max Power Dissipation: 100mW; Features: Automotive AEC-Q200; Construction: Rectangular; Length: 1.55mm; Width: 0.031inch; Height: 0.022inch; Depth: 0.8mm; Radiation Hardening: No; Lead Free: Lead Free; Military Standard: Not; RoHS Compliant: Yes; ComponentLink1URL: https://www.seielect.com/catalog/SEI-Packaging.pdf?src-supplier=Avnet; ComponentLink1Description: https://www.seielect.com/catalog/SEI-Packaging.pdf?src-supplier=Avnet; ComponentLink2URL: https://www.seielect.com/catalog/SEI-Packaging.pdf?src-supplier=Arrow+Electronics; ComponentLink2Description: https://www.seielect.com/catalog/SEI-Packaging.pdf?src-supplier=Arrow+Electronics; ComponentLink3URL: https://www.seielect.com/catalog/SEI-Packaging.pdf?src-supplier=Verical; ComponentLink3Description: https://www.seielect.com/catalog/SEI-Packaging.pdf?src-supplier=Verical; ComponentLink4URL: https://www.seielect.com/Catalog/SEI-RMCF_RMCP.pdf?src-supplier=Digi-Key; ComponentLink4Description: https://www.seielect.com/Catalog/SEI-RMCF_RMCP.pdf?src-supplier=Digi-Key; ComponentLink5URL: https://www.seielect.com/catalog/SEI-Packaging.pdf?src-supplier=Digi-Key; ComponentLink5Description: https://www.seielect.com/catalog/SEI-Packaging.pdf?src-supplier=Digi-Key
footprint RES_0603_1608X06 (Chip Resistor, 2-Leads, Body 1.60x0.80mm, IPC Medium Density)
pins: 1, 2

## TMP117AIDRVT
designator U?
±0.1°C accurate digital temperature sensor with integrated NV memory 6-WSON -55 to 150; Manufacturer: Texas Instruments; Output Type: I2C; Resolution: 16b; Supplier 1: Digi-Key; Manufacturer Part Number: TMP117AIDRVT; RoHS: Yes; Category: Integrated Circuits (ICs); Stock 1: 175; Pricing 1: 1=8.14000, 5=7.13800, 10=6.42400, 25=5.71000, 50=5.28180, 100=4.99620 (USD); Mount: Surface Mount; Min Operating Temperature: -55°C; Max Operating Temperature: 150°C; Packaging: Tape and Reel; RoHS Compliant: Yes; ComponentLink1URL: http://www.ti.com/lit/gpn/tmp117?src-supplier=Digi-Key; ComponentLink1Description: http://www.ti.com/lit/gpn/tmp117?src-supplier=Digi-Key; Supplier Part Number 1: 296-52214-1-ND
footprint 6-DFN_2x2_TMP117 (DFN, 6-Leads, Body 2.00x2.00, Pitch 0.65mm, IPC Medium Density)
pins: 1 SCL (in), 2 GND (power), 3 ALERT (out), 4 ADD0 (in), 5 V+ (power), 6 SDA (io)